# Altium schematic symbol library CRCW0603124KFKEA.SchLib: 1 symbol
Pins are listed as number, name and electrical type; pins without a type are passive.

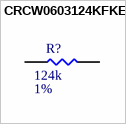
[diagram p0: symbol CRCW0603124KFKEA]

## CRCW0603124KFKEA
designator R?  Tolerance: 1%  Resistance: 124k  (hidden comment: CRCW0603124KFKEA)
Thick Film Resistors - SMD 1/10watt 124Kohms 1%; MFR: Vishay; Qualifications: AEC-Q200; PN: CRCW0603124KFKEA; ComponentLink1Description: Datasheet; ComponentLink1URL: https://www.mouser.ca/datasheet/2/427/dcrcwe3-1762152.pdf; Footprint: RES0603; Package: 0603; Supplier 1: Digi-Key; Supplier Part Number 1: 541-124KHCT-ND
footprint RES0603 (Generic 0603)
pins: 1, 2